# EAGLE library part MINITEK-10-VIE-M-F (library PonLib)
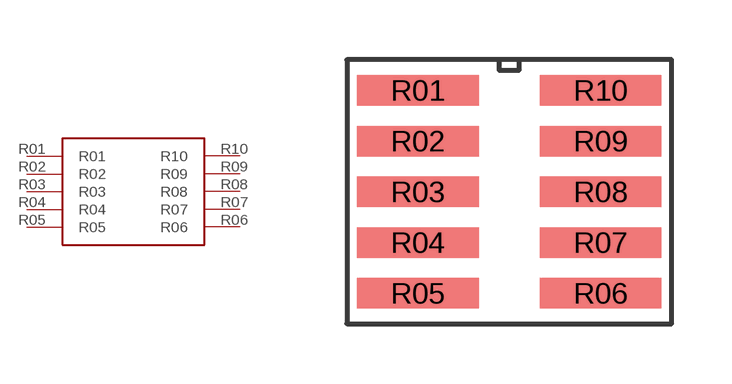
[diagram p2: symbol with the pads of MINITEK-10-VIE-MF; footprint MINITEK-10-VIE-MF]

Designator prefix -

## MINITEK-10-VIE-M-F  [MINITEK-10-VIE-MF]
R01  R01
R02  R02
R03  R03
R04  R04
R05  R05
R06  R06
R07  R07
R08  R08
R09  R09
R10  R10

## Footprint MINITEK-10-VIE-MF (pad centres in mm)
smd 3.048 x 0.762: R01 -2.286,2.54; R02 -2.286,1.27; R03 -2.286,0; R04 -2.286,-1.27; R05 -2.286,-2.54; R06 2.286,-2.54; R07 2.286,-1.27; R08 2.286,0; R09 2.286,1.27; R10 2.286,2.54